# Altium footprint library 43045-1000.PcbLib: 1 footprints
Each footprint in its own frame and in the unit in brackets; x right, y up, seen from the top. Pads: shape width x height; smd on the part's side, far side on the other; paste and mask are expansions set on the pad; w line width, h text height; cw(c..) or ccw(c..) is an arc to the next point about the centre after c.
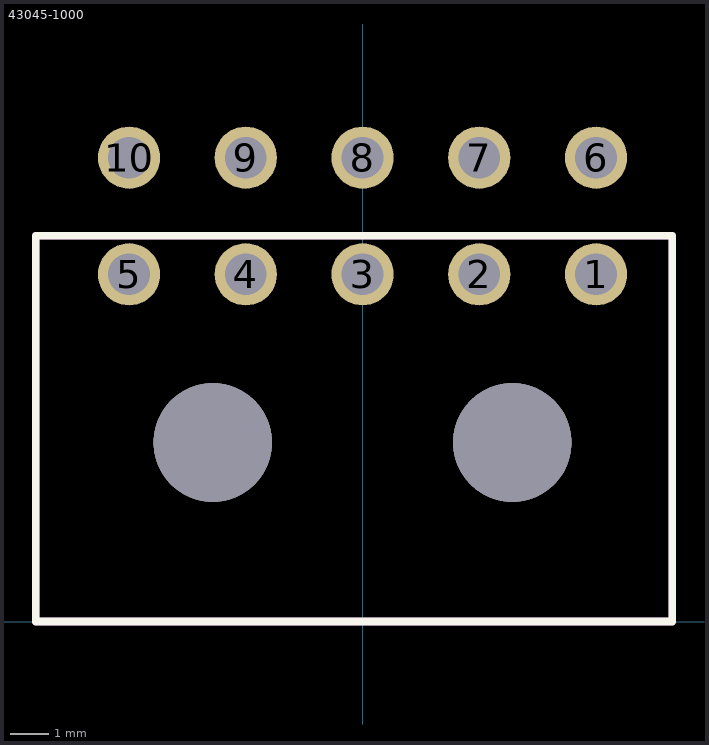
[diagram p0: the footprint, top view; thin cyan lines are the x and y axes]

## 43045-1000 [mm]
pads (12):
  round 1.6 hole 1.07: 1(6,8.92) 2(3,8.92) 3(0,8.92) 4(-3,8.92) 5(-6,8.92) 6(6,11.92) 7(3,11.92) 8(0,11.92) 9(-3,11.92) 10(-6,11.92)
  round 3.05 hole 3.05 unplated: ""(-3.85,4.6) ""(3.85,4.6)
Top Overlay:
  lines w0.2: -8.396,0 7.956,0 7.956,9.91 -8.396,9.91 -8.396,0
Mechanical 13:
  lines w0.2: -8.396,0 -8.396,9.91 7.956,9.91 7.956,0 -8.396,0
3D body "step_temp.STEP": height 8.77, standoff -3.18, extent -9.575,0 9.575,12.24